# Altium integrated library 10M25DAF484I7G.IntLib: 1 symbol
Pins are listed as number, name and electrical type; pins without a type are passive.

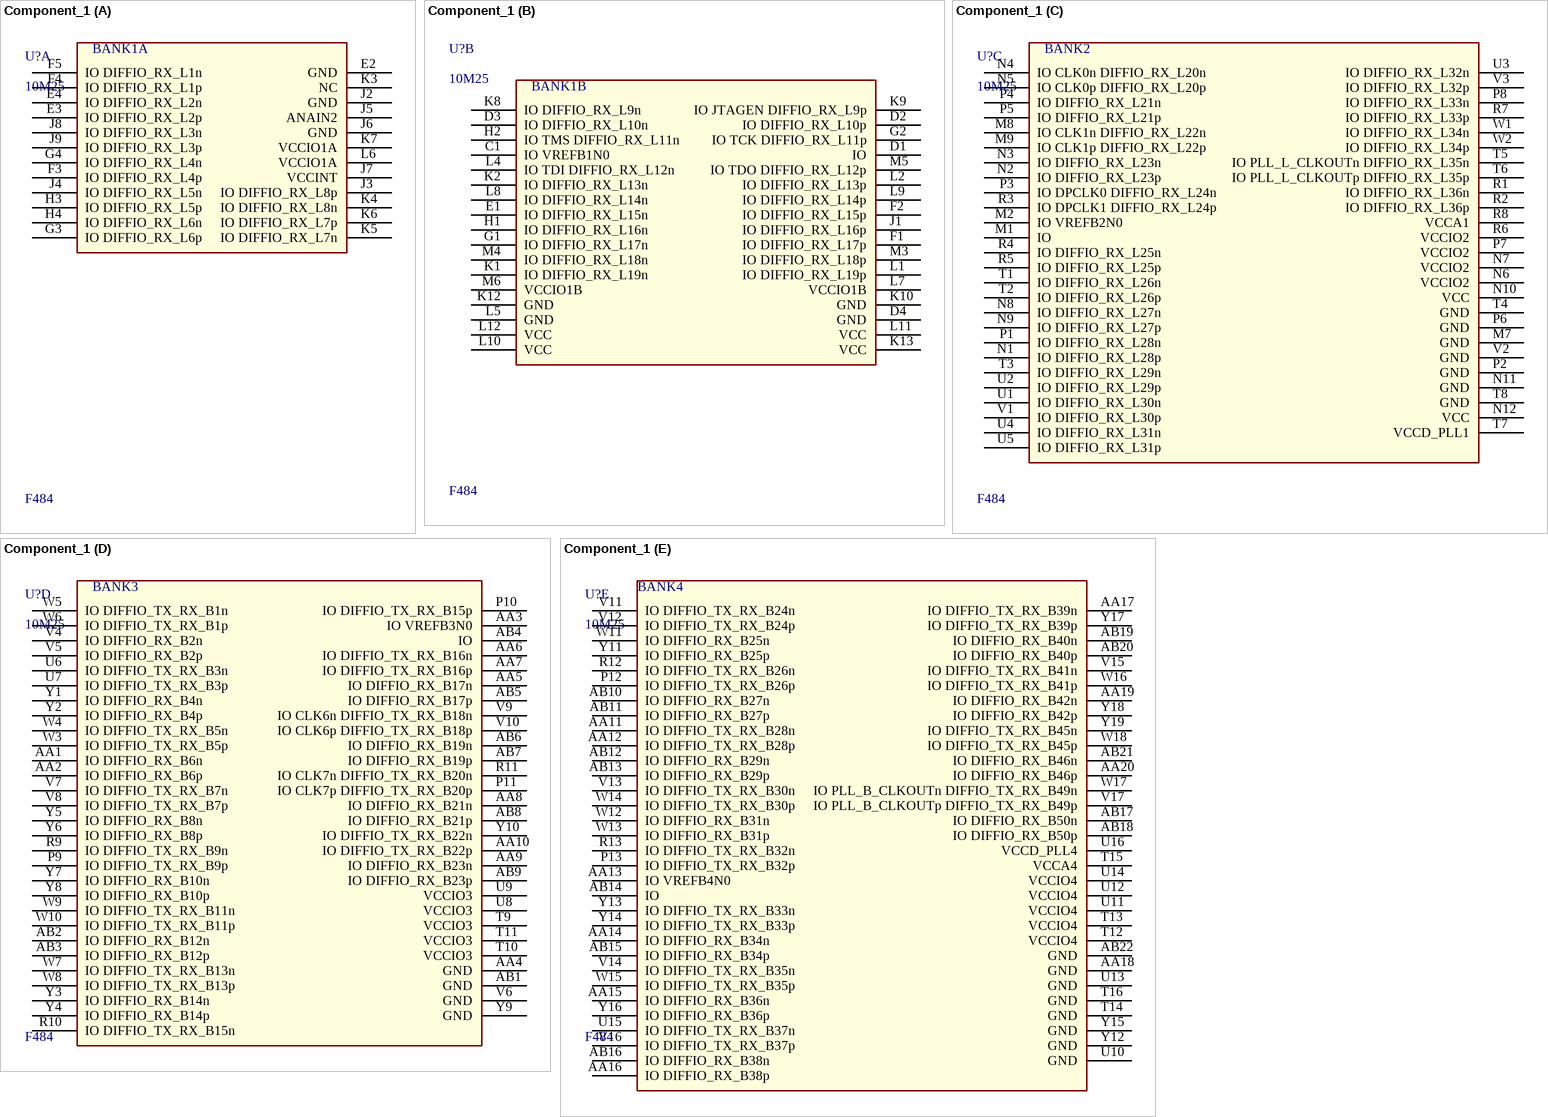
[diagram p0: symbol Component_1]

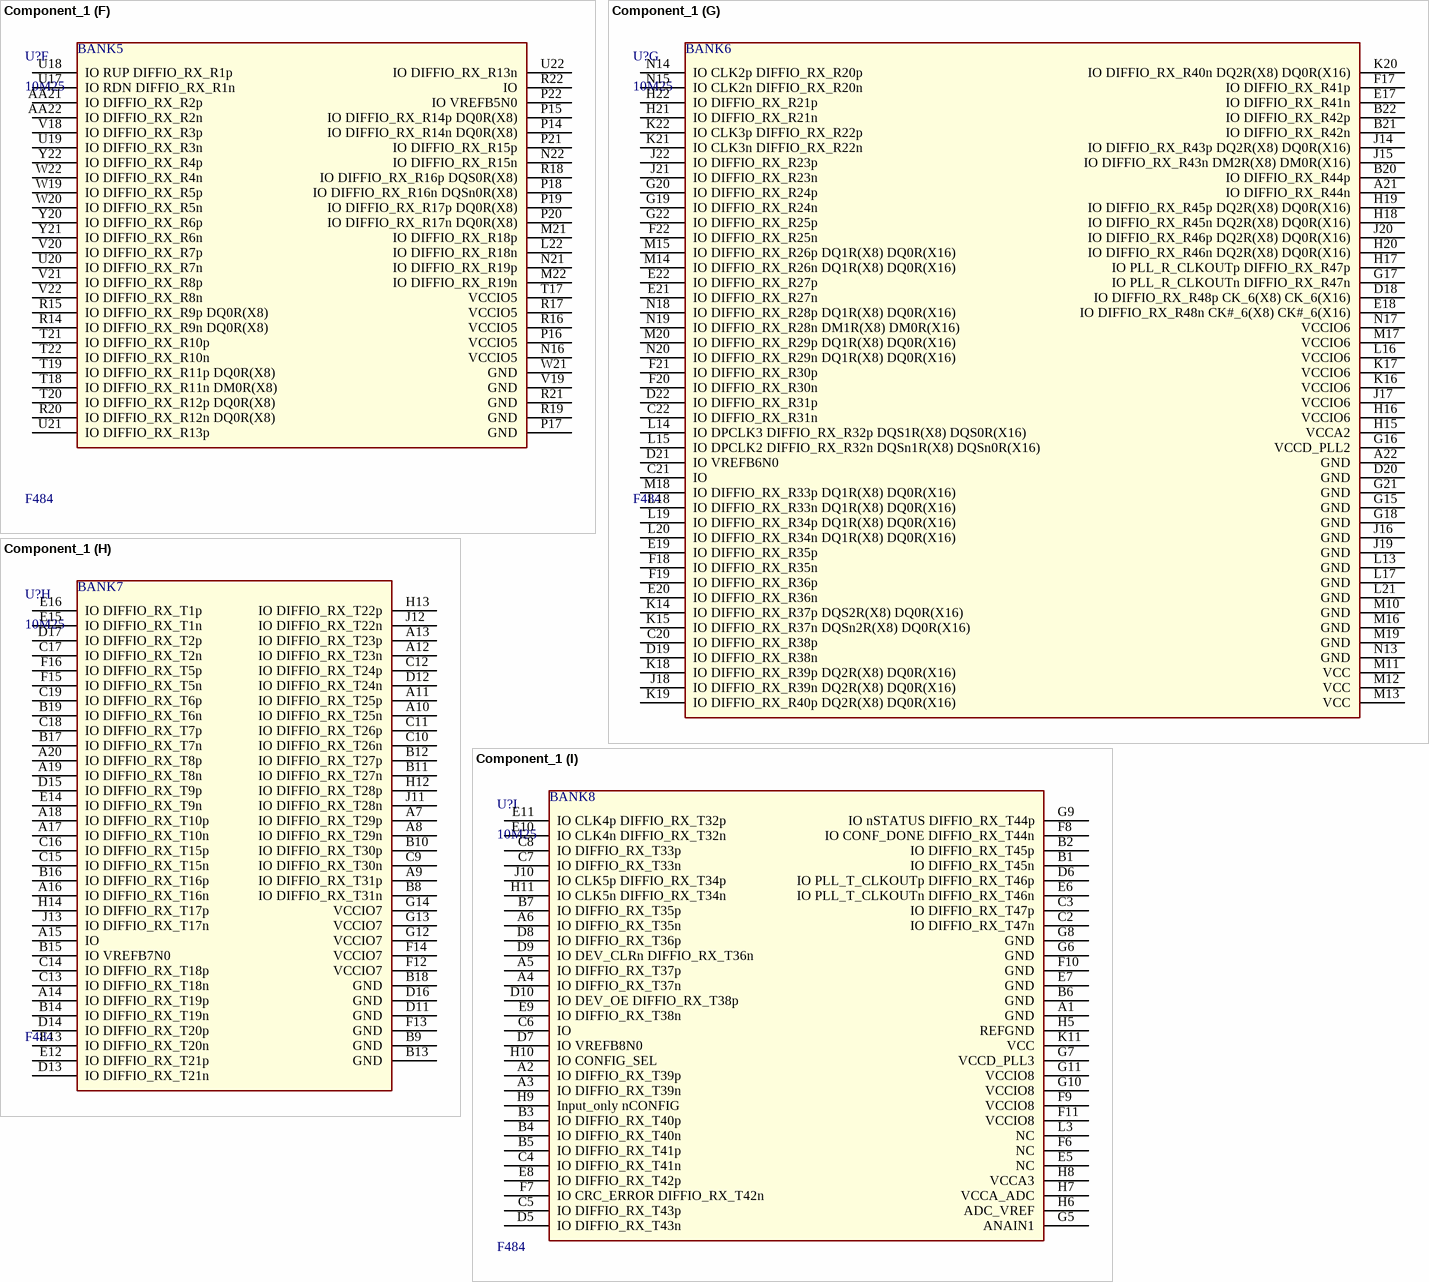
[diagram p1: symbol Component_1]

## Component_1
designator U?, comment 10M25  Package Type: F484
Part no.: 10M25DAF484I7G
footprint *BGA484C100P22X22_2300X2300X200N
part A pins: E2 GND, E3 IO DIFFIO_RX_L2p "Low_Speed", E4 IO DIFFIO_RX_L2n "Low_Speed", F3 IO DIFFIO_RX_L4p "Low_Speed", F4 IO DIFFIO_RX_L1p "Low_Speed", F5 IO DIFFIO_RX_L1n "Low_Speed", G3 IO DIFFIO_RX_L6p "Low_Speed", G4 IO DIFFIO_RX_L4n "Low_Speed", H3 IO DIFFIO_RX_L5p "Low_Speed", H4 IO DIFFIO_RX_L6n "Low_Speed", J2 GND, J3 IO DIFFIO_RX_L8p "Low_Speed", J4 IO DIFFIO_RX_L5n "Low_Speed", J5 ANAIN2, J6 GND, J7 VCCINT, J8 IO DIFFIO_RX_L3n "Low_Speed", J9 IO DIFFIO_RX_L3p "Low_Speed", K3 NC, K4 IO DIFFIO_RX_L8n "Low_Speed", K5 IO DIFFIO_RX_L7n "Low_Speed", K6 IO DIFFIO_RX_L7p "Low_Speed", K7 VCCIO1A, L6 VCCIO1A
part B pins: C1 IO VREFB1N0, D1 IO, D2 IO DIFFIO_RX_L10p "Low_Speed", D3 IO DIFFIO_RX_L10n "Low_Speed", D4 GND, E1 IO DIFFIO_RX_L15n "Low_Speed", F1 IO DIFFIO_RX_L17p "Low_Speed", F2 IO DIFFIO_RX_L15p "Low_Speed", G1 IO DIFFIO_RX_L17n "Low_Speed", G2 IO TCK DIFFIO_RX_L11p "Low_Speed", H1 IO DIFFIO_RX_L16n "Low_Speed", H2 IO TMS DIFFIO_RX_L11n "Low_Speed", J1 IO DIFFIO_RX_L16p "Low_Speed", K1 IO DIFFIO_RX_L19n "Low_Speed", K2 IO DIFFIO_RX_L13n "Low_Speed", K8 IO DIFFIO_RX_L9n "Low_Speed", K9 IO JTAGEN DIFFIO_RX_L9p "Low_Speed", K10 GND, K12 GND, K13 VCC, L1 IO DIFFIO_RX_L19p "Low_Speed", L2 IO DIFFIO_RX_L13p "Low_Speed", L4 IO TDI DIFFIO_RX_L12n "Low_Speed", L5 GND, L7 VCCIO1B, L8 IO DIFFIO_RX_L14n "Low_Speed", L9 IO DIFFIO_RX_L14p "Low_Speed", L10 VCC, L11 VCC, L12 VCC, M3 IO DIFFIO_RX_L18p "Low_Speed", M4 IO DIFFIO_RX_L18n "Low_Speed", M5 IO TDO DIFFIO_RX_L12p "Low_Speed", M6 VCCIO1B
part C pins: M1 IO, M2 IO VREFB2N0, M7 GND, M8 IO CLK1n DIFFIO_RX_L22n "High_Speed", M9 IO CLK1p DIFFIO_RX_L22p "High_Speed", N1 IO DIFFIO_RX_L28p "High_Speed", N2 IO DIFFIO_RX_L23p "High_Speed", N3 IO DIFFIO_RX_L23n "High_Speed", N4 IO CLK0n DIFFIO_RX_L20n "High_Speed", N5 IO CLK0p DIFFIO_RX_L20p "High_Speed", N6 VCCIO2, N7 VCCIO2, N8 IO DIFFIO_RX_L27n "High_Speed", N9 IO DIFFIO_RX_L27p "High_Speed", N10 VCC, N11 GND, N12 VCC, P1 IO DIFFIO_RX_L28n "High_Speed", P2 GND, P3 IO DPCLK0 DIFFIO_RX_L24n "High_Speed", P4 IO DIFFIO_RX_L21n "High_Speed", P5 IO DIFFIO_RX_L21p "High_Speed", P6 GND, P7 VCCIO2, P8 IO DIFFIO_RX_L33n "High_Speed", R1 IO DIFFIO_RX_L36n "High_Speed", R2 IO DIFFIO_RX_L36p "High_Speed", R3 IO DPCLK1 DIFFIO_RX_L24p "High_Speed", R4 IO DIFFIO_RX_L25n "High_Speed", R5 IO DIFFIO_RX_L25p "High_Speed", R6 VCCIO2, R7 IO DIFFIO_RX_L33p "High_Speed", R8 VCCA1, T1 IO DIFFIO_RX_L26n "High_Speed", T2 IO DIFFIO_RX_L26p "High_Speed", T3 IO DIFFIO_RX_L29n "High_Speed", T4 GND, T5 IO PLL_L_CLKOUTn DIFFIO_RX_L35n "High_Speed", T6 IO PLL_L_CLKOUTp DIFFIO_RX_L35p "High_Speed", T7 VCCD_PLL1, T8 GND, U1 IO DIFFIO_RX_L30n "High_Speed", U2 IO DIFFIO_RX_L29p "High_Speed", U3 IO DIFFIO_RX_L32n "High_Speed", U4 IO DIFFIO_RX_L31n "High_Speed", U5 IO DIFFIO_RX_L31p "High_Speed", V1 IO DIFFIO_RX_L30p "High_Speed", V2 GND, V3 IO DIFFIO_RX_L32p "High_Speed", W1 IO DIFFIO_RX_L34n "High_Speed", W2 IO DIFFIO_RX_L34p "High_Speed"
part D pins: AA1 IO DIFFIO_RX_B6n "High_Speed", AA2 IO DIFFIO_RX_B6p "High_Speed", AA3 IO VREFB3N0, AA4 GND, AA5 IO DIFFIO_RX_B17n "High_Speed", AA6 IO DIFFIO_TX_RX_B16n "High_Speed", AA7 IO DIFFIO_TX_RX_B16p "High_Speed", AA8 IO DIFFIO_RX_B21n "High_Speed", AA9 IO DIFFIO_RX_B23n "High_Speed", AA10 IO DIFFIO_TX_RX_B22p "High_Speed", AB1 GND, AB2 IO DIFFIO_RX_B12n "High_Speed", AB3 IO DIFFIO_RX_B12p "High_Speed", AB4 IO, AB5 IO DIFFIO_RX_B17p "High_Speed", AB6 IO DIFFIO_RX_B19n "High_Speed", AB7 IO DIFFIO_RX_B19p "High_Speed", AB8 IO DIFFIO_RX_B21p "High_Speed", AB9 IO DIFFIO_RX_B23p "High_Speed", P9 IO DIFFIO_TX_RX_B9p "High_Speed", P10 IO DIFFIO_TX_RX_B15p "High_Speed", P11 IO CLK7p DIFFIO_TX_RX_B20p "High_Speed", R9 IO DIFFIO_TX_RX_B9n "High_Speed", R10 IO DIFFIO_TX_RX_B15n "High_Speed", R11 IO CLK7n DIFFIO_TX_RX_B20n "High_Speed", T9 VCCIO3, T10 VCCIO3, T11 VCCIO3, U6 IO DIFFIO_TX_RX_B3n "High_Speed", U7 IO DIFFIO_TX_RX_B3p "High_Speed", U8 VCCIO3, U9 VCCIO3, V4 IO DIFFIO_RX_B2n "High_Speed", V5 IO DIFFIO_RX_B2p "High_Speed", V6 GND, V7 IO DIFFIO_TX_RX_B7n "High_Speed", V8 IO DIFFIO_TX_RX_B7p "High_Speed", V9 IO CLK6n DIFFIO_TX_RX_B18n "High_Speed", V10 IO CLK6p DIFFIO_TX_RX_B18p "High_Speed", W3 IO DIFFIO_TX_RX_B5p "High_Speed", W4 IO DIFFIO_TX_RX_B5n "High_Speed", W5 IO DIFFIO_TX_RX_B1n "High_Speed", W6 IO DIFFIO_TX_RX_B1p "High_Speed", W7 IO DIFFIO_TX_RX_B13n "High_Speed", W8 IO DIFFIO_TX_RX_B13p "High_Speed", W9 IO DIFFIO_TX_RX_B11n "High_Speed", W10 IO DIFFIO_TX_RX_B11p "High_Speed", Y1 IO DIFFIO_RX_B4n "High_Speed", Y2 IO DIFFIO_RX_B4p "High_Speed", Y3 IO DIFFIO_RX_B14n "High_Speed", Y4 IO DIFFIO_RX_B14p "High_Speed", Y5 IO DIFFIO_RX_B8n "High_Speed", Y6 IO DIFFIO_RX_B8p "High_Speed", Y7 IO DIFFIO_RX_B10n "High_Speed", Y8 IO DIFFIO_RX_B10p "High_Speed", Y9 GND, Y10 IO DIFFIO_TX_RX_B22n "High_Speed"
part E pins: AA11 IO DIFFIO_TX_RX_B28n "High_Speed", AA12 IO DIFFIO_TX_RX_B28p "High_Speed", AA13 IO VREFB4N0, AA14 IO DIFFIO_RX_B34n "High_Speed", AA15 IO DIFFIO_RX_B36n "High_Speed", AA16 IO DIFFIO_RX_B38p "High_Speed", AA17 IO DIFFIO_TX_RX_B39n "High_Speed", AA18 GND, AA19 IO DIFFIO_RX_B42n "High_Speed", AA20 IO DIFFIO_RX_B46p "High_Speed", AB10 IO DIFFIO_RX_B27n "High_Speed", AB11 IO DIFFIO_RX_B27p "High_Speed", AB12 IO DIFFIO_RX_B29n "High_Speed", AB13 IO DIFFIO_RX_B29p "High_Speed", AB14 IO, AB15 IO DIFFIO_RX_B34p "High_Speed", AB16 IO DIFFIO_RX_B38n "High_Speed", AB17 IO DIFFIO_RX_B50n "High_Speed", AB18 IO DIFFIO_RX_B50p "High_Speed", AB19 IO DIFFIO_RX_B40n "High_Speed", AB20 IO DIFFIO_RX_B40p "High_Speed", AB21 IO DIFFIO_RX_B46n "High_Speed", AB22 GND, P12 IO DIFFIO_TX_RX_B26p "High_Speed", P13 IO DIFFIO_TX_RX_B32p "High_Speed", R12 IO DIFFIO_TX_RX_B26n "High_Speed", R13 IO DIFFIO_TX_RX_B32n "High_Speed", T12 VCCIO4, T13 VCCIO4, T14 GND, T15 VCCA4, T16 GND, U10 GND, U11 VCCIO4, U12 VCCIO4, U13 GND, U14 VCCIO4, U15 IO DIFFIO_TX_RX_B37n "High_Speed", U16 VCCD_PLL4, V11 IO DIFFIO_TX_RX_B24n "High_Speed", V12 IO DIFFIO_TX_RX_B24p "High_Speed", V13 IO DIFFIO_TX_RX_B30n "High_Speed", V14 IO DIFFIO_TX_RX_B35n "High_Speed", V15 IO DIFFIO_TX_RX_B41n "High_Speed", V16 IO DIFFIO_TX_RX_B37p "High_Speed", V17 IO PLL_B_CLKOUTp DIFFIO_TX_RX_B49p "High_Speed", W11 IO DIFFIO_RX_B25n "High_Speed", W12 IO DIFFIO_RX_B31n "High_Speed", W13 IO DIFFIO_RX_B31p "High_Speed", W14 IO DIFFIO_TX_RX_B30p "High_Speed", W15 IO DIFFIO_TX_RX_B35p "High_Speed", W16 IO DIFFIO_TX_RX_B41p "High_Speed", W17 IO PLL_B_CLKOUTn DIFFIO_TX_RX_B49n "High_Speed", W18 IO DIFFIO_TX_RX_B45p "High_Speed", Y11 IO DIFFIO_RX_B25p "High_Speed", Y12 GND, Y13 IO DIFFIO_TX_RX_B33n "High_Speed", Y14 IO DIFFIO_TX_RX_B33p "High_Speed", Y15 GND, Y16 IO DIFFIO_RX_B36p "High_Speed", Y17 IO DIFFIO_TX_RX_B39p "High_Speed", Y18 IO DIFFIO_RX_B42p "High_Speed", Y19 IO DIFFIO_TX_RX_B45n "High_Speed"
part F pins: AA21 IO DIFFIO_RX_R2p "High_Speed", AA22 IO DIFFIO_RX_R2n "High_Speed", L22 IO DIFFIO_RX_R18n "High_Speed", M21 IO DIFFIO_RX_R18p "High_Speed", M22 IO DIFFIO_RX_R19n "High_Speed", N16 VCCIO5, N21 IO DIFFIO_RX_R19p "High_Speed", N22 IO DIFFIO_RX_R15n "High_Speed", P14 IO DIFFIO_RX_R14n DQ0R(X8) "High_Speed", P15 IO DIFFIO_RX_R14p DQ0R(X8) "High_Speed", P16 VCCIO5, P17 GND, P18 IO DIFFIO_RX_R16n DQSn0R(X8) "High_Speed", P19 IO DIFFIO_RX_R17p DQ0R(X8) "High_Speed", P20 IO DIFFIO_RX_R17n DQ0R(X8) "High_Speed", P21 IO DIFFIO_RX_R15p "High_Speed", P22 IO VREFB5N0, R14 IO DIFFIO_RX_R9n DQ0R(X8) "High_Speed", R15 IO DIFFIO_RX_R9p DQ0R(X8) "High_Speed", R16 VCCIO5, R17 VCCIO5, R18 IO DIFFIO_RX_R16p DQS0R(X8) "High_Speed", R19 GND, R20 IO DIFFIO_RX_R12n DQ0R(X8) "High_Speed", R21 GND, R22 IO, T17 VCCIO5, T18 IO DIFFIO_RX_R11n DM0R(X8) "High_Speed", T19 IO DIFFIO_RX_R11p DQ0R(X8) "High_Speed", T20 IO DIFFIO_RX_R12p DQ0R(X8) "High_Speed", T21 IO DIFFIO_RX_R10p "High_Speed", T22 IO DIFFIO_RX_R10n "High_Speed", U17 IO RDN DIFFIO_RX_R1n "High_Speed", U18 IO RUP DIFFIO_RX_R1p "High_Speed", U19 IO DIFFIO_RX_R3n "High_Speed", U20 IO DIFFIO_RX_R7n "High_Speed", U21 IO DIFFIO_RX_R13p "High_Speed", U22 IO DIFFIO_RX_R13n "High_Speed", V18 IO DIFFIO_RX_R3p "High_Speed", V19 GND, V20 IO DIFFIO_RX_R7p "High_Speed", V21 IO DIFFIO_RX_R8p "High_Speed", V22 IO DIFFIO_RX_R8n "High_Speed", W19 IO DIFFIO_RX_R5p "High_Speed", W20 IO DIFFIO_RX_R5n "High_Speed", W21 GND, W22 IO DIFFIO_RX_R4n "High_Speed", Y20 IO DIFFIO_RX_R6p "High_Speed", Y21 IO DIFFIO_RX_R6n "High_Speed", Y22 IO DIFFIO_RX_R4p "High_Speed"
part G pins: A21 IO DIFFIO_RX_R44n "High_Speed", A22 GND, B20 IO DIFFIO_RX_R44p "High_Speed", B21 IO DIFFIO_RX_R42n "High_Speed", B22 IO DIFFIO_RX_R42p "High_Speed", C20 IO DIFFIO_RX_R38p "High_Speed", C21 IO, C22 IO DIFFIO_RX_R31n "High_Speed", D18 IO DIFFIO_RX_R48p CK_6(X8) CK_6(X16) "High_Speed", D19 IO DIFFIO_RX_R38n "High_Speed", D20 GND, D21 IO VREFB6N0, D22 IO DIFFIO_RX_R31p "High_Speed", E17 IO DIFFIO_RX_R41n "High_Speed", E18 IO DIFFIO_RX_R48n CK#_6(X8) CK#_6(X16) "High_Speed", E19 IO DIFFIO_RX_R35p "High_Speed", E20 IO DIFFIO_RX_R36n "High_Speed", E21 IO DIFFIO_RX_R27n "High_Speed", E22 IO DIFFIO_RX_R27p "High_Speed", F17 IO DIFFIO_RX_R41p "High_Speed", F18 IO DIFFIO_RX_R35n "High_Speed", F19 IO DIFFIO_RX_R36p "High_Speed", F20 IO DIFFIO_RX_R30n "High_Speed", F21 IO DIFFIO_RX_R30p "High_Speed", F22 IO DIFFIO_RX_R25n "High_Speed", G15 GND, G16 VCCD_PLL2, G17 IO PLL_R_CLKOUTn DIFFIO_RX_R47n "High_Speed", G18 GND, G19 IO DIFFIO_RX_R24n "High_Speed", G20 IO DIFFIO_RX_R24p "High_Speed", G21 GND, G22 IO DIFFIO_RX_R25p "High_Speed", H15 VCCA2, H16 VCCIO6, H17 IO PLL_R_CLKOUTp DIFFIO_RX_R47p "High_Speed", H18 IO DIFFIO_RX_R45n DQ2R(X8) DQ0R(X16) "High_Speed", H19 IO DIFFIO_RX_R45p DQ2R(X8) DQ0R(X16) "High_Speed", H20 IO DIFFIO_RX_R46n DQ2R(X8) DQ0R(X16) "High_Speed", H21 IO DIFFIO_RX_R21n "High_Speed", H22 IO DIFFIO_RX_R21p "High_Speed", J14 IO DIFFIO_RX_R43p DQ2R(X8) DQ0R(X16) "High_Speed", J15 IO DIFFIO_RX_R43n DM2R(X8) DM0R(X16) "High_Speed", J16 GND, J17 VCCIO6, J18 IO DIFFIO_RX_R39n DQ2R(X8) DQ0R(X16) "High_Speed", J19 GND, J20 IO DIFFIO_RX_R46p DQ2R(X8) DQ0R(X16) "High_Speed", J21 IO DIFFIO_RX_R23n "High_Speed", J22 IO DIFFIO_RX_R23p "High_Speed", K14 IO DIFFIO_RX_R37p DQS2R(X8) DQ0R(X16) "High_Speed", K15 IO DIFFIO_RX_R37n DQSn2R(X8) DQ0R(X16) "High_Speed", K16 VCCIO6, K17 VCCIO6, K18 IO DIFFIO_RX_R39p DQ2R(X8) DQ0R(X16) "High_Speed", K19 IO DIFFIO_RX_R40p DQ2R(X8) DQ0R(X16) "High_Speed", K20 IO DIFFIO_RX_R40n DQ2R(X8) DQ0R(X16) "High_Speed", K21 IO CLK3n DIFFIO_RX_R22n "High_Speed", K22 IO CLK3p DIFFIO_RX_R22p "High_Speed", L13 GND, L14 IO DPCLK3 DIFFIO_RX_R32p DQS1R(X8) DQS0R(X16) "High_Speed", L15 IO DPCLK2 DIFFIO_RX_R32n DQSn1R(X8) DQSn0R(X16) "High_Speed", L16 VCCIO6, L17 GND, L18 IO DIFFIO_RX_R33n DQ1R(X8) DQ0R(X16) "High_Speed", L19 IO DIFFIO_RX_R34p DQ1R(X8) DQ0R(X16) "High_Speed", L20 IO DIFFIO_RX_R34n DQ1R(X8) DQ0R(X16) "High_Speed", L21 GND, M10 GND, M11 VCC, M12 VCC, M13 VCC, M14 IO DIFFIO_RX_R26n DQ1R(X8) DQ0R(X16) "High_Speed", M15 IO DIFFIO_RX_R26p DQ1R(X8) DQ0R(X16) "High_Speed", M16 GND, M17 VCCIO6, M18 IO DIFFIO_RX_R33p DQ1R(X8) DQ0R(X16) "High_Speed", M19 GND, M20 IO DIFFIO_RX_R29p DQ1R(X8) DQ0R(X16) "High_Speed", N13 GND, N14 IO CLK2p DIFFIO_RX_R20p "High_Speed", N15 IO CLK2n DIFFIO_RX_R20n "High_Speed", N17 VCCIO6, N18 IO DIFFIO_RX_R28p DQ1R(X8) DQ0R(X16) "High_Speed", N19 IO DIFFIO_RX_R28n DM1R(X8) DM0R(X16) "High_Speed", N20 IO DIFFIO_RX_R29n DQ1R(X8) DQ0R(X16) "High_Speed"
part H pins: A7 IO DIFFIO_RX_T29p "High_Speed", A8 IO DIFFIO_RX_T29n "High_Speed", A9 IO DIFFIO_RX_T31p "High_Speed", A10 IO DIFFIO_RX_T25n "High_Speed", A11 IO DIFFIO_RX_T25p "High_Speed", A12 IO DIFFIO_RX_T23n "High_Speed", A13 IO DIFFIO_RX_T23p "High_Speed", A14 IO DIFFIO_RX_T19p "High_Speed", A15 IO, A16 IO DIFFIO_RX_T16n "High_Speed", A17 IO DIFFIO_RX_T10n "High_Speed", A18 IO DIFFIO_RX_T10p "High_Speed", A19 IO DIFFIO_RX_T8n "High_Speed", A20 IO DIFFIO_RX_T8p "High_Speed", B8 IO DIFFIO_RX_T31n "High_Speed", B9 GND, B10 IO DIFFIO_RX_T30p "High_Speed", B11 IO DIFFIO_RX_T27n "High_Speed", B12 IO DIFFIO_RX_T27p "High_Speed", B13 GND, B14 IO DIFFIO_RX_T19n "High_Speed", B15 IO VREFB7N0, B16 IO DIFFIO_RX_T16p "High_Speed", B17 IO DIFFIO_RX_T7n "High_Speed", B18 GND, B19 IO DIFFIO_RX_T6n "High_Speed", C9 IO DIFFIO_RX_T30n "High_Speed", C10 IO DIFFIO_RX_T26n "High_Speed", C11 IO DIFFIO_RX_T26p "High_Speed", C12 IO DIFFIO_RX_T24p "High_Speed", C13 IO DIFFIO_RX_T18n "High_Speed", C14 IO DIFFIO_RX_T18p "High_Speed", C15 IO DIFFIO_RX_T15n "High_Speed", C16 IO DIFFIO_RX_T15p "High_Speed", C17 IO DIFFIO_RX_T2n "High_Speed", C18 IO DIFFIO_RX_T7p "High_Speed", C19 IO DIFFIO_RX_T6p "High_Speed", D11 GND, D12 IO DIFFIO_RX_T24n "High_Speed", D13 IO DIFFIO_RX_T21n "High_Speed", D14 IO DIFFIO_RX_T20p "High_Speed", D15 IO DIFFIO_RX_T9p "High_Speed", D16 GND, D17 IO DIFFIO_RX_T2p "High_Speed", E12 IO DIFFIO_RX_T21p "High_Speed", E13 IO DIFFIO_RX_T20n "High_Speed", E14 IO DIFFIO_RX_T9n "High_Speed", E15 IO DIFFIO_RX_T1n "High_Speed", E16 IO DIFFIO_RX_T1p "High_Speed", F12 VCCIO7, F13 GND, F14 VCCIO7, F15 IO DIFFIO_RX_T5n "High_Speed", F16 IO DIFFIO_RX_T5p "High_Speed", G12 VCCIO7, G13 VCCIO7, G14 VCCIO7, H12 IO DIFFIO_RX_T28p "High_Speed", H13 IO DIFFIO_RX_T22p "High_Speed", H14 IO DIFFIO_RX_T17p "High_Speed", J11 IO DIFFIO_RX_T28n "High_Speed", J12 IO DIFFIO_RX_T22n "High_Speed", J13 IO DIFFIO_RX_T17n "High_Speed"
part I pins: A1 GND, A2 IO DIFFIO_RX_T39p "Low_Speed", A3 IO DIFFIO_RX_T39n "Low_Speed", A4 IO DIFFIO_RX_T37n "Low_Speed", A5 IO DIFFIO_RX_T37p "Low_Speed", A6 IO DIFFIO_RX_T35n "Low_Speed", B1 IO DIFFIO_RX_T45n "Low_Speed", B2 IO DIFFIO_RX_T45p "Low_Speed", B3 IO DIFFIO_RX_T40p "Low_Speed", B4 IO DIFFIO_RX_T40n "Low_Speed", B5 IO DIFFIO_RX_T41p "Low_Speed", B6 GND, B7 IO DIFFIO_RX_T35p "Low_Speed", C2 IO DIFFIO_RX_T47n "Low_Speed", C3 IO DIFFIO_RX_T47p "Low_Speed", C4 IO DIFFIO_RX_T41n "Low_Speed", C5 IO DIFFIO_RX_T43p "Low_Speed", C6 IO, C7 IO DIFFIO_RX_T33n "Low_Speed", C8 IO DIFFIO_RX_T33p "Low_Speed", D5 IO DIFFIO_RX_T43n "Low_Speed", D6 IO PLL_T_CLKOUTp DIFFIO_RX_T46p "Low_Speed", D7 IO VREFB8N0, D8 IO DIFFIO_RX_T36p "Low_Speed", D9 IO DEV_CLRn DIFFIO_RX_T36n "Low_Speed", D10 IO DEV_OE DIFFIO_RX_T38p "Low_Speed", E5 NC, E6 IO PLL_T_CLKOUTn DIFFIO_RX_T46n "Low_Speed", E7 GND, E8 IO DIFFIO_RX_T42p "Low_Speed", E9 IO DIFFIO_RX_T38n "Low_Speed", E10 IO CLK4n DIFFIO_RX_T32n "Low_Speed", E11 IO CLK4p DIFFIO_RX_T32p "Low_Speed", F6 NC, F7 IO CRC_ERROR DIFFIO_RX_T42n "Low_Speed", F8 IO CONF_DONE DIFFIO_RX_T44n "Low_Speed", F9 VCCIO8, F10 GND, F11 VCCIO8, G5 ANAIN1, G6 GND, G7 VCCD_PLL3, G8 GND, G9 IO nSTATUS DIFFIO_RX_T44p "Low_Speed", G10 VCCIO8, G11 VCCIO8, H5 REFGND, H6 ADC_VREF, H7 VCCA_ADC, H8 VCCA3, H9 Input_only nCONFIG, H10 IO CONFIG_SEL, H11 IO CLK5n DIFFIO_RX_T34n "Low_Speed", J10 IO CLK5p DIFFIO_RX_T34p "Low_Speed", K11 VCC, L3 NC
part A text: BANK1A
part B text: BANK1B
part C text: BANK2
part D text: BANK3
part E text: BANK4
part F text: BANK5
part G text: BANK6
part H text: BANK7
part I text: BANK8